# EAGLE library part GL823(B) (library GL823)
USB 2.0 SD/MMC Card Reader Controller (5V)
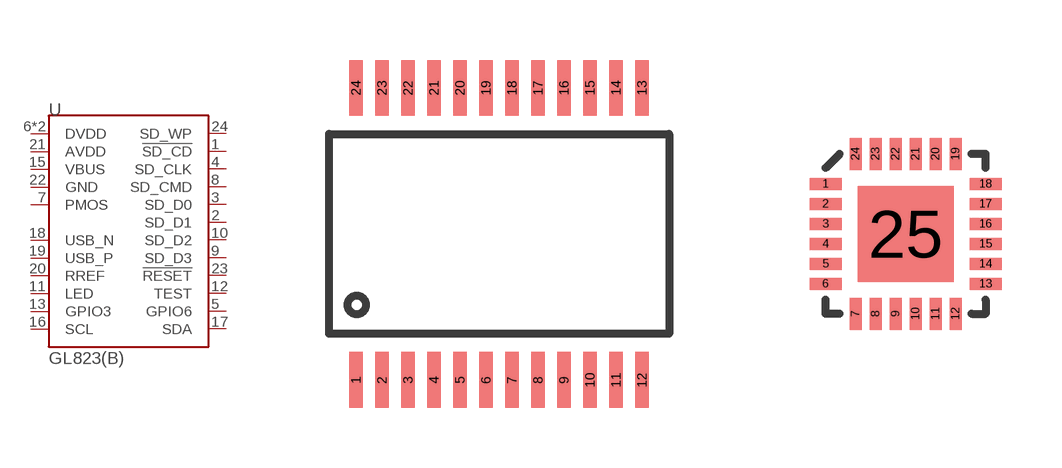
[diagram p0: symbol with the pads of SSOP24; footprints SSOP24, QFN-24]

Designator prefix U

## GL823(B)HG  [SSOP24]
1  !SD_CD  in
2  SD_D1
3  SD_D0
4  SD_CLK  out
5  GPIO6
6  DVDD  pwr
7  PMOS  pwr
8  SD_CMD
9  SD_D3
10  SD_D2
11  LED  out
12  TEST  in
13  GPIO3
14  DVDD  pwr
15  VBUS  pwr
16  SCL
17  SDA
18  USB_N
19  USB_P
20  RREF
21  AVDD  pwr
22  GND  pwr
23  !RESET  in
24  SD_WP  in

## GL823(B)OG  [QFN-24]
1  SCL
2  SDA
3  USB_N
4  USB_P
5  RREF
6  AVDD  pwr
7  GND  pwr
8  !RESET  in
9  SD_WP  in
10  !SD_CD  in
11  SD_D1
12  SD_D0
13  SD_CLK  out
14  GPIO6
15  DVDD  pwr
16  PMOS  pwr
17  SD_CMD
18  SD_D3
19  SD_D2
20  LED  out
21  TEST  in
22  GPIO3
23  DVDD  pwr
24  VBUS  pwr
25  GND  pwr

## Footprint SSOP24 (pad centres in mm)
smd 0.348 x 1.397: 1 -3.575,-3.656; 2 -2.925,-3.656; 3 -2.275,-3.656; 4 -1.625,-3.656; 5 -0.975,-3.656; 6 -0.325,-3.656; 7 0.325,-3.656; 8 0.975,-3.656; 9 1.625,-3.656; 10 2.275,-3.656; 11 2.925,-3.656; 12 3.575,-3.656; 13 3.575,3.656; 14 2.925,3.656; 15 2.275,3.656; 16 1.625,3.656; 17 0.975,3.656; 18 0.325,3.656; 19 -0.325,3.656; 20 -0.975,3.656; 21 -1.625,3.656; 22 -2.275,3.656; 23 -2.925,3.656; 24 -3.575,3.656

## Footprint QFN-24 (pad centres in mm)
smd 0.8 x 0.3: 1 -2,1.25; 2 -2,0.75; 3 -2,0.25; 4 -2,-0.25; 5 -2,-0.75; 6 -2,-1.25; 13 2,-1.25; 14 2,-0.75; 15 2,-0.25; 16 2,0.25; 17 2,0.75; 18 2,1.25
smd 0.3 x 0.8: 7 -1.25,-2; 8 -0.75,-2; 9 -0.25,-2; 10 0.25,-2; 11 0.75,-2; 12 1.25,-2; 19 1.25,2; 20 0.75,2; 21 0.25,2; 22 -0.25,2; 23 -0.75,2; 24 -1.25,2
smd 2.4 x 2.4: 25 0,0